# EAGLE library part 750342178 (library Midcom Inc - EAGLE Lib V2-0)
Package Style: ER14.5 Mounting: SMD Pins: 10 pins Bobbin: 070-4329 Best pinouts for production vary per application. Please contact Wurth Electronics Midcom, Inc. for assistance with your custom design. Website: Wurth Electronics Midcom <http://www.we-online.com/midcom> Contact us Wurth Electronics Midcom, Inc. 121 Airport Dr. Watertown, SD 57201 Phone: (605) 886-4385 Fax: (605) 886-4486 E-Mail: midcom@we-online.com
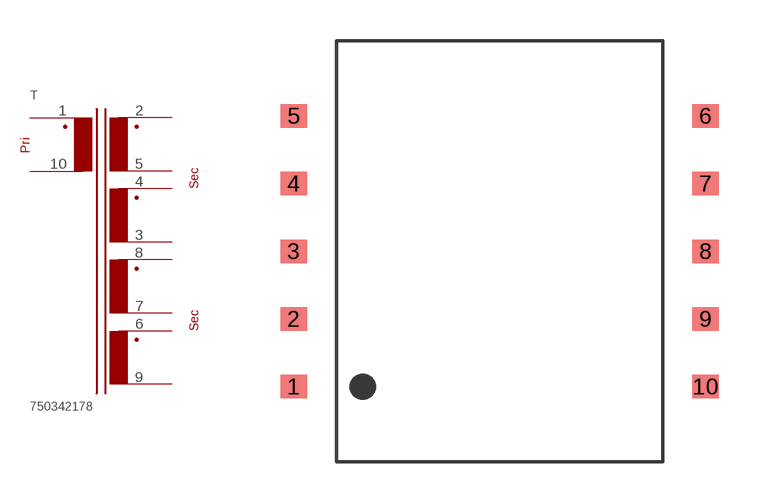
[diagram p166: symbol with the pads of ER14.5_SMD_V_10PIN_(4329); footprint ER14.5_SMD_V_10PIN_(4329)]

Designator prefix T

## 750342178  [ER14.5_SMD_V_10PIN_(4329)]
1  1  pas
2  2  pas
3  3  pas
4  4  pas
5  5  pas
6  6  pas
7  7  pas
8  8  pas
9  9  pas
10  10  pas

## Footprint ER14.5_SMD_V_10PIN_(4329) (pad centres in mm)
Package Style: ER14.5 Mounting: SMD Pins: 10 Bobbin: 070-4329
smd 0.965 x 0.864: 1 -7.582,-4.978; 2 -7.582,-2.489; 3 -7.582,0; 4 -7.582,2.489; 5 -7.582,4.978; 6 7.582,4.978; 7 7.582,2.489; 8 7.582,0; 9 7.582,-2.489; 10 7.582,-4.978